# Altium schematic symbol library Transistors.SchLib: 10 symbols
Pins are listed as number, name and electrical type; pins without a type are passive.

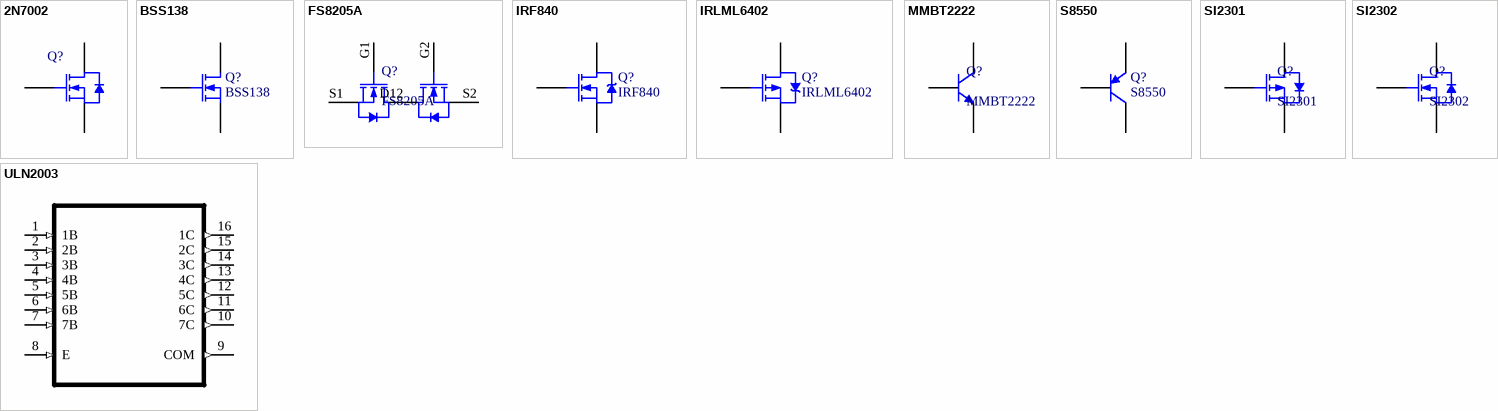
[diagram p0: symbols 2N7002 to ULN2003]

## 2N7002
designator Q?
Small Signal MOSFET, 60 V, 310 mA, Single, N-Channel, 3-Pin SOT-23, Pb-Free, Tape and Reel; Manufacturer: On Semiconductor; PartNumber: 2N7002ET1G; Channel Polarity: N Channel; Ciss Typ (pF): 26.7; Coss Typ (pF): 4.6; Crss Typ (pF): 2.9; ID Max (A): 0.31; V(BR)DSS Min (V): 60; VGS Max (V): 20; VGS(th) Max (V): 2.5; DatasheetVersion: Rev. 3; PackageVersion: Rev. AP, 11/2009; PackageReference: SOT-23-3-318-08; PackageDescription: 3-Pin Small Outline Transistor, Body 2.92 x 1.3 mm, Pitch 0.95 mm; Supplier 1: Digi-Key; Supplier Part Number 1: 2N7002ET1GOSTR-ND; Supplier 2: Digi-Key; Supplier Part Number 2: 2N7002ET1GOSCT-ND; Supplier 3: Digi-Key; Supplier Part Number 3: 2N7002ET1GOSDKR-ND; Supplier 4: Farnell; Supplier Part Number 4: 2317895; Supplier 5: Farnell; Supplier Part Number 5: 2317616; Supplier 6: Newark; Supplier Part Number 6: 09R9861; Supplier 7: Newark; Supplier Part Number 7: 50M2216; Supplier 8: Mouser; Supplier Part Number 8: 863-2N7002ET1G; Configuration: Single; Package Type: SOT-23-3; Packing: Tape and Reel; RoHS: Pb-Free; Mounting Technology: Surface Mount; ComponentLink1Description: Manufacturer URL; ComponentLink1URL: http://www.onsemi.com/; ComponentLink2Description: Datasheet; ComponentLink2URL: http://www.onsemi.com/pub_link/Collateral/2N7002E-D.PDF; ComponentLink3Description: Package Specification; ComponentLink3URL: http://www.onsemi.cn/pub_link/Collateral/318-08.PDF
footprint SOT23-3 L (SOT23, 3-Leads, Body 2.92x1.3mm, Pitch 0.95mm)
footprint SOT23-3 M (MCP1700T-3302E/TT)
footprint SOT23-3 N (SOT23, 3-Leads, Body 2.92x2.37mm, Pitch 0.95mm, IPC Medium Density)
pins: 1 G, 2 S, 3 D

## BSS138
designator Q?
N-Channel MOSFET; Published: 8-Jun-2000; LatestRevisionDate: 17-Jul-2002; LatestRevisionNote: Re-released for DXP Platform.; PackageVersion: 1995/1996; PackageReference: E3; Publisher: Altium Limited; PackageDescription: TO, Flat Index; 3 In-Line, Axial Leads; Body Dia. 4.6mm; Lead Dia. 0.5 mm (max)
simulation model NMOS (MOSFET-N)
footprint SOT23-3 L (SOT23, 3-Leads, Body 2.92x1.3mm, Pitch 0.95mm)
footprint SOT23-3 M (MCP1700T-3302E/TT)
footprint SOT23-3 N (SOT23, 3-Leads, Body 2.92x2.37mm, Pitch 0.95mm, IPC Medium Density)
pins: 1 G, 2 S, 3 D

## FS8205A
designator Q?
dual N-ch MOSFET (li protection)
footprint TSSOP-8 L (TSOP, 8-Leads, Body 6.5x4.4mm, Pitch 0.65mm, IPC High Density)
pins: D12 D "drain", G1 G "gate", G2 G "gate", S1 S "source", S2 S "source"

## IRF840
designator Q?
N-Channel Power MOSFET; Voltage: 500V; Current: 8A; PackageReference: TO-220AB; PackageDescription: TO, Thru-Hole, Vertical, Heatsink Mounted; 3 In-Line Leads; Pitch 2.54 mm
simulation model IRF1010 (Spice Subcircuit)
footprint TO-220 (TO, Thru-Hole, Vertical, Heatsink Mounted; 3 In-Line Leads; Pitch 2.54 mm)
pins: 1 G, 2 D, 3 S

## IRLML6402
designator Q?
HEXFET Power MOSFET; Published: 17-Sep-2003; DatasheetVersion: 2-Jul-2001; PackageVersion: Jul-2001; PackageReference: Micro3; Publisher: Altium Limited; PackageDescription: 3-Pin SOT-23 Package 0.95 mm Pitch, 2.3 mm Lead Span; ComponentLink1Description: Manufacturer Link; ComponentLink1URL: http://www.irf.com/; ComponentLink2Description: Datasheet; ComponentLink2URL: http://www.irf.com/product-info/datasheets/data/IRLML6402.pdf
simulation model IRLML6402 (SUBCKT)
footprint SOT23-3 L (SOT23, 3-Leads, Body 2.92x1.3mm, Pitch 0.95mm)
footprint SOT23-3 M (SOT23, 3-Leads, Body 2.92x2.37mm, Pitch 0.95mm, IPC Medium Density)
footprint SOT23-3 N (MCP1700T-3302E/TT)
pins: 1 G, 2 S, 3 D

## MMBT2222
designator Q?
NPN 0.6A 30V
footprint SOT23-3 L (SOT23, 3-Leads, Body 2.92x1.3mm, Pitch 0.95mm)
footprint SOT23-3 M (SOT23, 3-Leads, Body 2.92x2.37mm, Pitch 0.95mm, IPC Medium Density)
footprint SOT23-3 N (MCP1700T-3302E/TT)
pins: 1 B, 2 E, 3 C

## S8550
designator Q?
PNP transistor; PackageReference: SOT23
footprint SOT23-3 L (SOT23, 3-Leads, Body 2.92x1.3mm, Pitch 0.95mm)
footprint SOT23-3 M (SOT23, 3-Leads, Body 2.92x2.37mm, Pitch 0.95mm, IPC Medium Density)
footprint SOT23-3 N (MCP1700T-3302E/TT)
pins: 1 B, 2 E, 3 C

## SI2301
designator Q?
P-ch MOSFET 2.8A 20V
footprint SOT23-3 L (SOT23, 3-Leads, Body 2.92x1.3mm, Pitch 0.95mm)
footprint SOT23-3 M (SOT23, 3-Leads, Body 2.92x2.37mm, Pitch 0.95mm, IPC Medium Density)
footprint SOT23-3 N (MCP1700T-3302E/TT)
pins: 1 G "gate", 2 D "drain", 3 S "source"

## SI2302
designator Q?
N-ch MOSFET 3A 20V
footprint SOT95P237X112-3N (SOT23, 3-Leads, Body 2.92x2.37mm, Pitch 0.95mm, IPC Medium Density)
pins: 1 G "gate", 2 D "drain", 3 S "source"

## ULN2003
designator U?  (value not drawn)
Darlington transistors; Value: *
footprint SOIC-16 N
pins: 1 1B (in), 2 2B (in), 3 3B (in), 4 4B (in), 5 5B (in), 6 6B (in), 7 7B (in), 8 E (in), 9 COM (out), 10 7C (out), 11 6C (out), 12 5C (out), 13 4C (out), 14 3C (out), 15 2C (out), 16 1C (out)